# Altium footprint library RCLD.PcbLib: 18 footprints (part 2 of 2)
Each footprint in its own frame and in the unit in brackets; x right, y up, seen from the top. Pads: shape width x height; smd on the part's side, far side on the other; paste and mask are expansions set on the pad; w line width, h text height; cw(c..) or ccw(c..) is an arc to the next point about the centre after c.
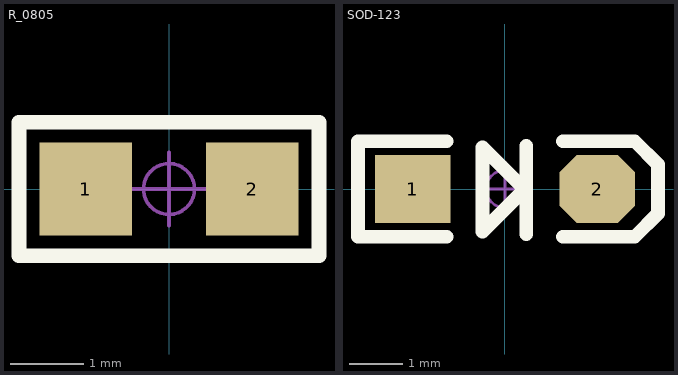
[diagram p1: the footprints below, top view; thin cyan lines are the x and y axes]

## R_0805 [mil]
pads (2):
  rect 50x50 smd: 1(-45,0) 2(45,0)
Top Overlay:
  lines w8: -81,-36 81,-36 81,36 -81,36 -81,-36
Mechanical 15:
  circle w1.97: c0,0 r13.78
  lines w1.97: -19.68,0 19.68,0 ; 0,-19.68 0,19.68
3D body "R 0805.STEP": height 19.72, standoff -0.24, extent -39.37,-24.6 39.37,24.61

## SOD-123 [mil] "2.7x1.6X1.1mm（长宽高，不包括引脚）"
pads (2):
  rect 55x50 smd: 1(-67.5,0)
  oct 55x50 smd: 2(67.5,0)
Top Overlay:
  lines w10: -42.5,-35 -107.5,-35 -107.5,35 -42.5,35 ; 14,-0.8 -16.4,-31.2 -16.4,30.5 15.6,-1.5 ; 15.6,-33.1 15.6,31.7 ; 42.5,-35 95,-35 112,-18 112,18 95,35 42.5,35
Mechanical 15:
  circle w1.97: c0,0 r13.78
  lines w1.97: -19.68,0 19.68,0 ; 0,-19.68 0,19.68
3D body "SOD-123.STEP": height 48.03, standoff 0, extent -72.84,-31.5 72.83,31.5